# EAGLE library part BQ24650RVAR (library TexasInstruments)
Synchronous Switch-Mode Battery Charge Controller
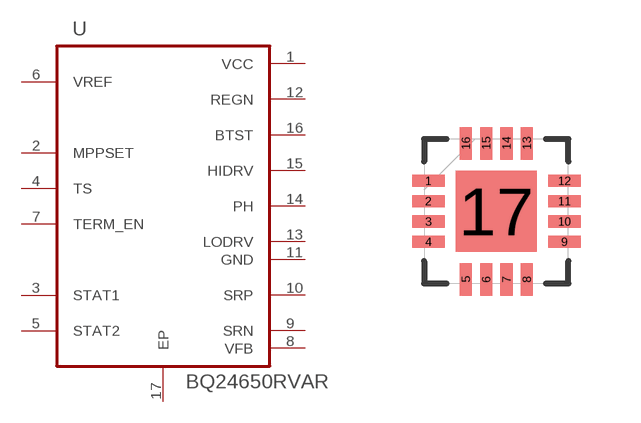
[diagram p0: symbol with the pads of QFN50P350X350X100-17N; footprint QFN50P350X350X100-17N]

Designator prefix U

## BQ24650RVAR (AVAILABILITY: Unavailable; DESCRIPTION: Charger IC Multi-Chemistry 16-VQFN _3.5x3.5_; MF: Texas Instruments; MP: BQ24650RVAR; PACKAGE: VFQFN-16 Murata Power Solutions; PRICE: None)  [QFN50P350X350X100-17N]
1  VCC  pwr
2  MPPSET  in
3  STAT1  out
4  TS  in
5  STAT2  out
6  VREF  out
7  TERM_EN  in
8  VFB  in
9  SRN  in
10  SRP  in
11  GND  pas
12  REGN  out
13  LODRV  out
14  PH  pwr
15  HIDRV  out
16  BTST  pwr
17  EP  pas

## Footprint QFN50P350X350X100-17N (pad centres in mm)
smd 0.813 x 0.305: 1 -1.702,0.762; 2 -1.702,0.254; 3 -1.702,-0.254; 4 -1.702,-0.762; 9 1.702,-0.762; 10 1.702,-0.254; 11 1.702,0.254; 12 1.702,0.762
smd 0.305 x 0.813: 5 -0.762,-1.702; 6 -0.254,-1.702; 7 0.254,-1.702; 8 0.762,-1.702; 13 0.762,1.702; 14 0.254,1.702; 15 -0.254,1.702; 16 -0.762,1.702
smd 2.032 x 2.032: 17 0,0